# Altium integrated library idl-fixed_new.IntLib: 75 symbols
Pins are listed as number, name and electrical type; pins without a type are passive.

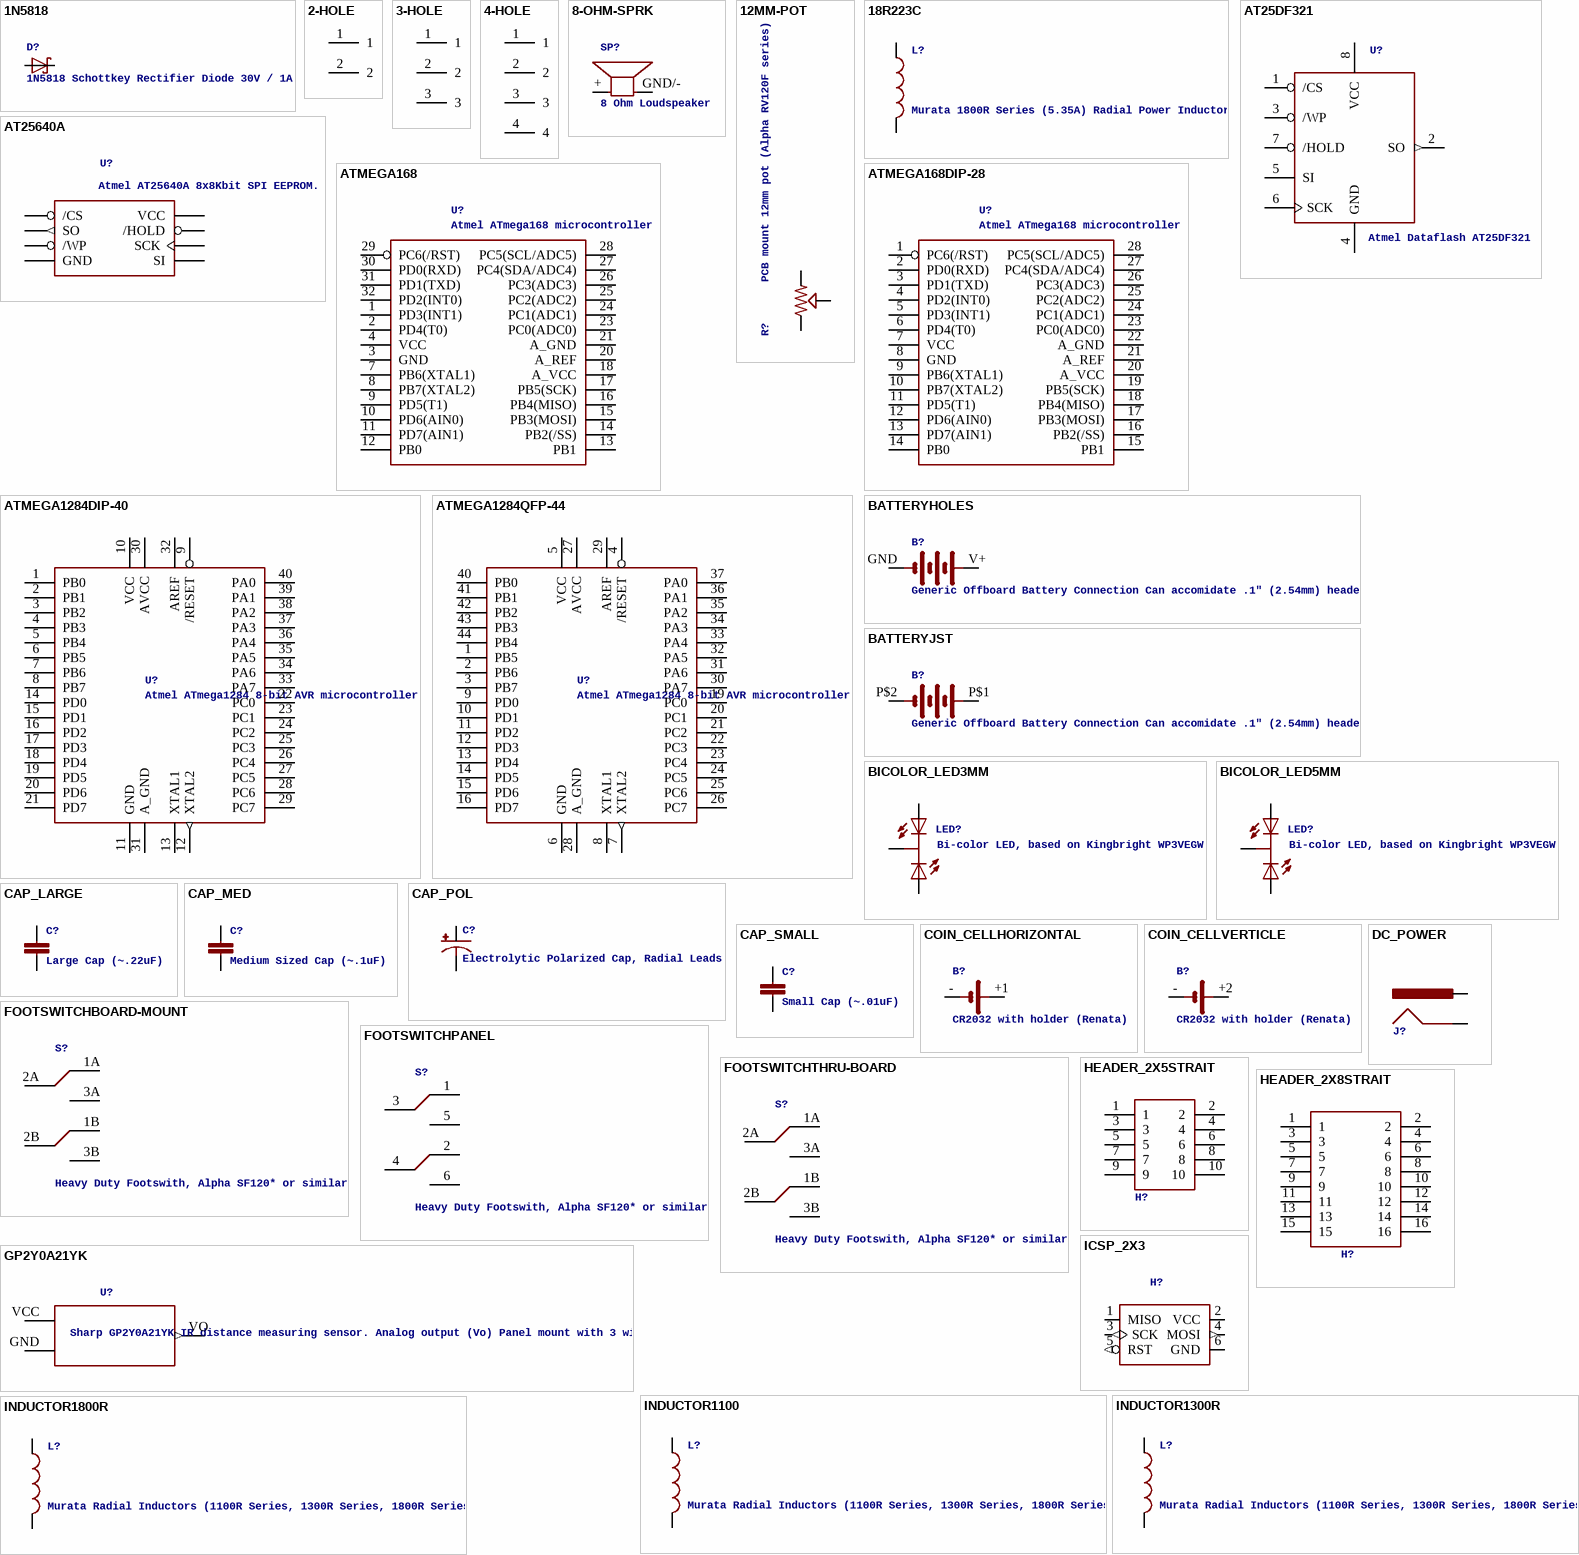
[diagram p0: symbols 1N5818 to INDUCTOR1800R]

## 1N5818
designator D?, comment 1N5818 Schottkey Rectifier Diode 30V / 1A
footprint DO-41
pins: A, C

## 2-HOLE
designator ?
footprint 2-HOLES
pins: 1, 2

## 3-HOLE
designator H?
footprint 3-HOLES
pins: 1, 2, 3

## 4-HOLE
designator ?
footprint 4-HOLES
pins: 1, 2, 3, 4

## 8-OHM-SPRK
designator SP?, comment 8 Ohm Loudspeaker
footprint SPKR
pins: +, GND/- -

## 12MM-POT
designator R?, comment PCB mount 12mm pot (Alpha RV120F series)
footprint 12MM
pins: 1, 2, 3

## 18R223C
designator L?, comment Murata 1800R Series (5.35A) Radial Power Inductor
footprint 1800R_SERIES
pins: P$1 1, P$2 2

## AT25DF321
designator U?, comment Atmel Dataflash AT25DF321
footprint SOIC-8_208
pins: 1 /CS, 2 SO (out), 3 /WP, 4 GND (power), 5 SI, 6 SCK, 7 /HOLD, 8 VCC (power)

## AT25640A
designator U?, comment Atmel AT25640A 8x8Kbit SPI EEPROM.
pins: ?1 /CS, ?2 SO (out), ?3 /WP, ?4 GND (power), ?5 SI, ?6 SCK, ?7 /HOLD, ?8 VCC (power)

## ATMEGA168
designator U?, comment Atmel ATmega168 microcontroller
footprint QFP32-08
pins: 1 PD3(INT1), 2 PD4(T0), 3 GND (power), 4 VCC (power), 7 PB6(XTAL1), 8 PB7(XTAL2), 9 PD5(T1), 10 PD6(AIN0), 11 PD7(AIN1), 12 PB0, 13 PB1, 14 PB2(/SS), 15 PB3(MOSI), 16 PB4(MISO), 17 PB5(SCK), 18 A_VCC (power), 20 A_REF (power), 21 A_GND (power), 23 PC0(ADC0), 24 PC1(ADC1), 25 PC2(ADC2), 26 PC3(ADC3), 27 PC4(SDA/ADC4), 28 PC5(SCL/ADC5), 29 PC6(/RST), 30 PD0(RXD), 31 PD1(TXD), 32 PD2(INT0)

## ATMEGA168DIP-28
designator U?, comment Atmel ATmega168 microcontroller
footprint DIP-28
pins: 1 PC6(/RST), 2 PD0(RXD), 3 PD1(TXD), 4 PD2(INT0), 5 PD3(INT1), 6 PD4(T0), 7 VCC (power), 8 GND (power), 9 PB6(XTAL1), 10 PB7(XTAL2), 11 PD5(T1), 12 PD6(AIN0), 13 PD7(AIN1), 14 PB0, 15 PB1, 16 PB2(/SS), 17 PB3(MOSI), 18 PB4(MISO), 19 PB5(SCK), 20 A_VCC (power), 21 A_REF (power), 22 A_GND (power), 23 PC0(ADC0), 24 PC1(ADC1), 25 PC2(ADC2), 26 PC3(ADC3), 27 PC4(SDA/ADC4), 28 PC5(SCL/ADC5)

## ATMEGA1284DIP-40
designator U?, comment Atmel ATmega1284 8-bit AVR microcontroller
footprint DIP-40
pins: 1 PB0, 2 PB1, 3 PB2, 4 PB3, 5 PB4, 6 PB5, 7 PB6, 8 PB7, 9 /RESET, 10 VCC (power), 11 GND (power), 12 XTAL2 (out), 13 XTAL1, 14 PD0, 15 PD1, 16 PD2, 17 PD3, 18 PD4, 19 PD5, 20 PD6, 21 PD7, 22 PC0, 23 PC1, 24 PC2, 25 PC3, 26 PC4, 27 PC5, 28 PC6, 29 PC7, 30 AVCC (power), 31 A_GND (power), 32 AREF (oe), 33 PA7, 34 PA6, 35 PA5, 36 PA4, 37 PA3, 38 PA2, 39 PA1, 40 PA0

## ATMEGA1284QFP-44
designator U?, comment Atmel ATmega1284 8-bit AVR microcontroller
footprint QFP44-08
pins: 1 PB5, 2 PB6, 3 PB7, 4 /RESET, 5 VCC (power), 6 GND (power), 7 XTAL2 (out), 8 XTAL1, 9 PD0, 10 PD1, 11 PD2, 12 PD3, 13 PD4, 14 PD5, 15 PD6, 16 PD7, 19 PC0, 20 PC1, 21 PC2, 22 PC3, 23 PC4, 24 PC5, 25 PC6, 26 PC7, 27 AVCC (power), 28 A_GND (power), 29 AREF (oe), 30 PA7, 31 PA6, 32 PA5, 33 PA4, 34 PA3, 35 PA2, 36 PA1, 37 PA0, 40 PB0, 41 PB1, 42 PB2, 43 PB3, 44 PB4

## BATTERYHOLES
designator B?, comment Generic Offboard Battery Connection Can accomidate .1" (2.54mm) headers
footprint BATTERY
pins: GND -, V+ +

## BATTERYJST
designator B?, comment Generic Offboard Battery Connection Can accomidate .1" (2.54mm) headers
footprint JST_2_PIN
pins: P$1 +, P$2 -

## BICOLOR_LED3MM
designator LED?, comment Bi-color LED, based on Kingbright WP3VEGW
footprint 3MMLED_3LEADS
pins: 1 A1, 2 CC, 3 A2

## BICOLOR_LED5MM
designator LED?, comment Bi-color LED, based on Kingbright WP3VEGW
footprint 5MMLED_3LEADS
pins: 1 A1, 2 CC, 3 A2

## CAP_LARGE
designator C?, comment Large Cap (~.22uF)
footprint CAP_LARGE
pins: 1, 2

## CAP_MED
designator C?, comment Medium Sized Cap (~.1uF)
footprint CAP_MED
pins: P$1 1, P$2 2

## CAP_POL
designator C?, comment Electrolytic Polarized Cap, Radial Leads
footprint CAP_POL
pins: P$1 +, P$2 -

## CAP_SMALL
designator C?, comment Small Cap (~.01uF)
footprint CAP_SMALL
pins: P$1 1, P$2 2

## COIN_CELLHORIZONTAL
designator B?, comment CR2032 with holder (Renata)
footprint COIN_CELL_H
pins: +1 +, -

## COIN_CELLVERTICLE
designator B?, comment CR2032 with holder (Renata)
footprint COIN_CELL_V
pins: +2 +, -

## DC_POWER
designator J?
footprint 2-HOLES
pins: 1 GND, 2 PWR

## FOOTSWITCHBOARD-MOUNT
designator S?, comment Heavy Duty Footswith, Alpha SF120* or similar
footprint FOOTSWITCH
pins: 1A, 1B, 2A, 2B, 3A, 3B

## FOOTSWITCHPANEL
designator S?, comment Heavy Duty Footswith, Alpha SF120* or similar
footprint 2X3_HEADER
pins: 1 1A, 2 1B, 3 2A, 4 2B, 5 3A, 6 3B

## FOOTSWITCHTHRU-BOARD
designator S?, comment Heavy Duty Footswith, Alpha SF120* or similar
footprint FOOTSWITCH_HOLE
pins: 1A, 1B, 2A, 2B, 3A, 3B

## GP2Y0A21YK
designator U?, comment Sharp GP2Y0A21YK IR distance measuring sensor. Analog output (Vo) Panel mount with 3 wire pig tail connector to PCB
footprint GP2Y0
pins: GND (power), VCC (power), VO (out)

## HEADER_2X5STRAIT
designator H?, comment .1" headers  (value not drawn)
footprint 2X5_HEADER
pins: 1, 2, 3, 4, 5, 6, 7, 8, 9, 10

## HEADER_2X8STRAIT
designator H?, comment .1" header  (value not drawn)
footprint 2X8_HEADER
pins: 1, 2, 3, 4, 5, 6, 7, 8, 9, 10, 11, 12, 13, 14, 15, 16

## ICSP_2X3
designator H?, comment 2x3 Header for Atmel ICSP  (value not drawn)
footprint 2X3_HEADER
pins: 1 MISO, 2 VCC (power), 3 SCK (out), 4 MOSI (out), 5 RST (out), 6 GND (power)

## INDUCTOR1100
designator L?, comment Murata Radial Inductors (1100R Series, 1300R Series, 1800R Series)
footprint 1100R
pins: 1, 2

## INDUCTOR1300R
designator L?, comment Murata Radial Inductors (1100R Series, 1300R Series, 1800R Series)
footprint 1300R
pins: 1, 2

## INDUCTOR1800R
designator L?, comment Murata Radial Inductors (1100R Series, 1300R Series, 1800R Series)
footprint 1800R_SERIES
pins: P$1 1, P$2 2

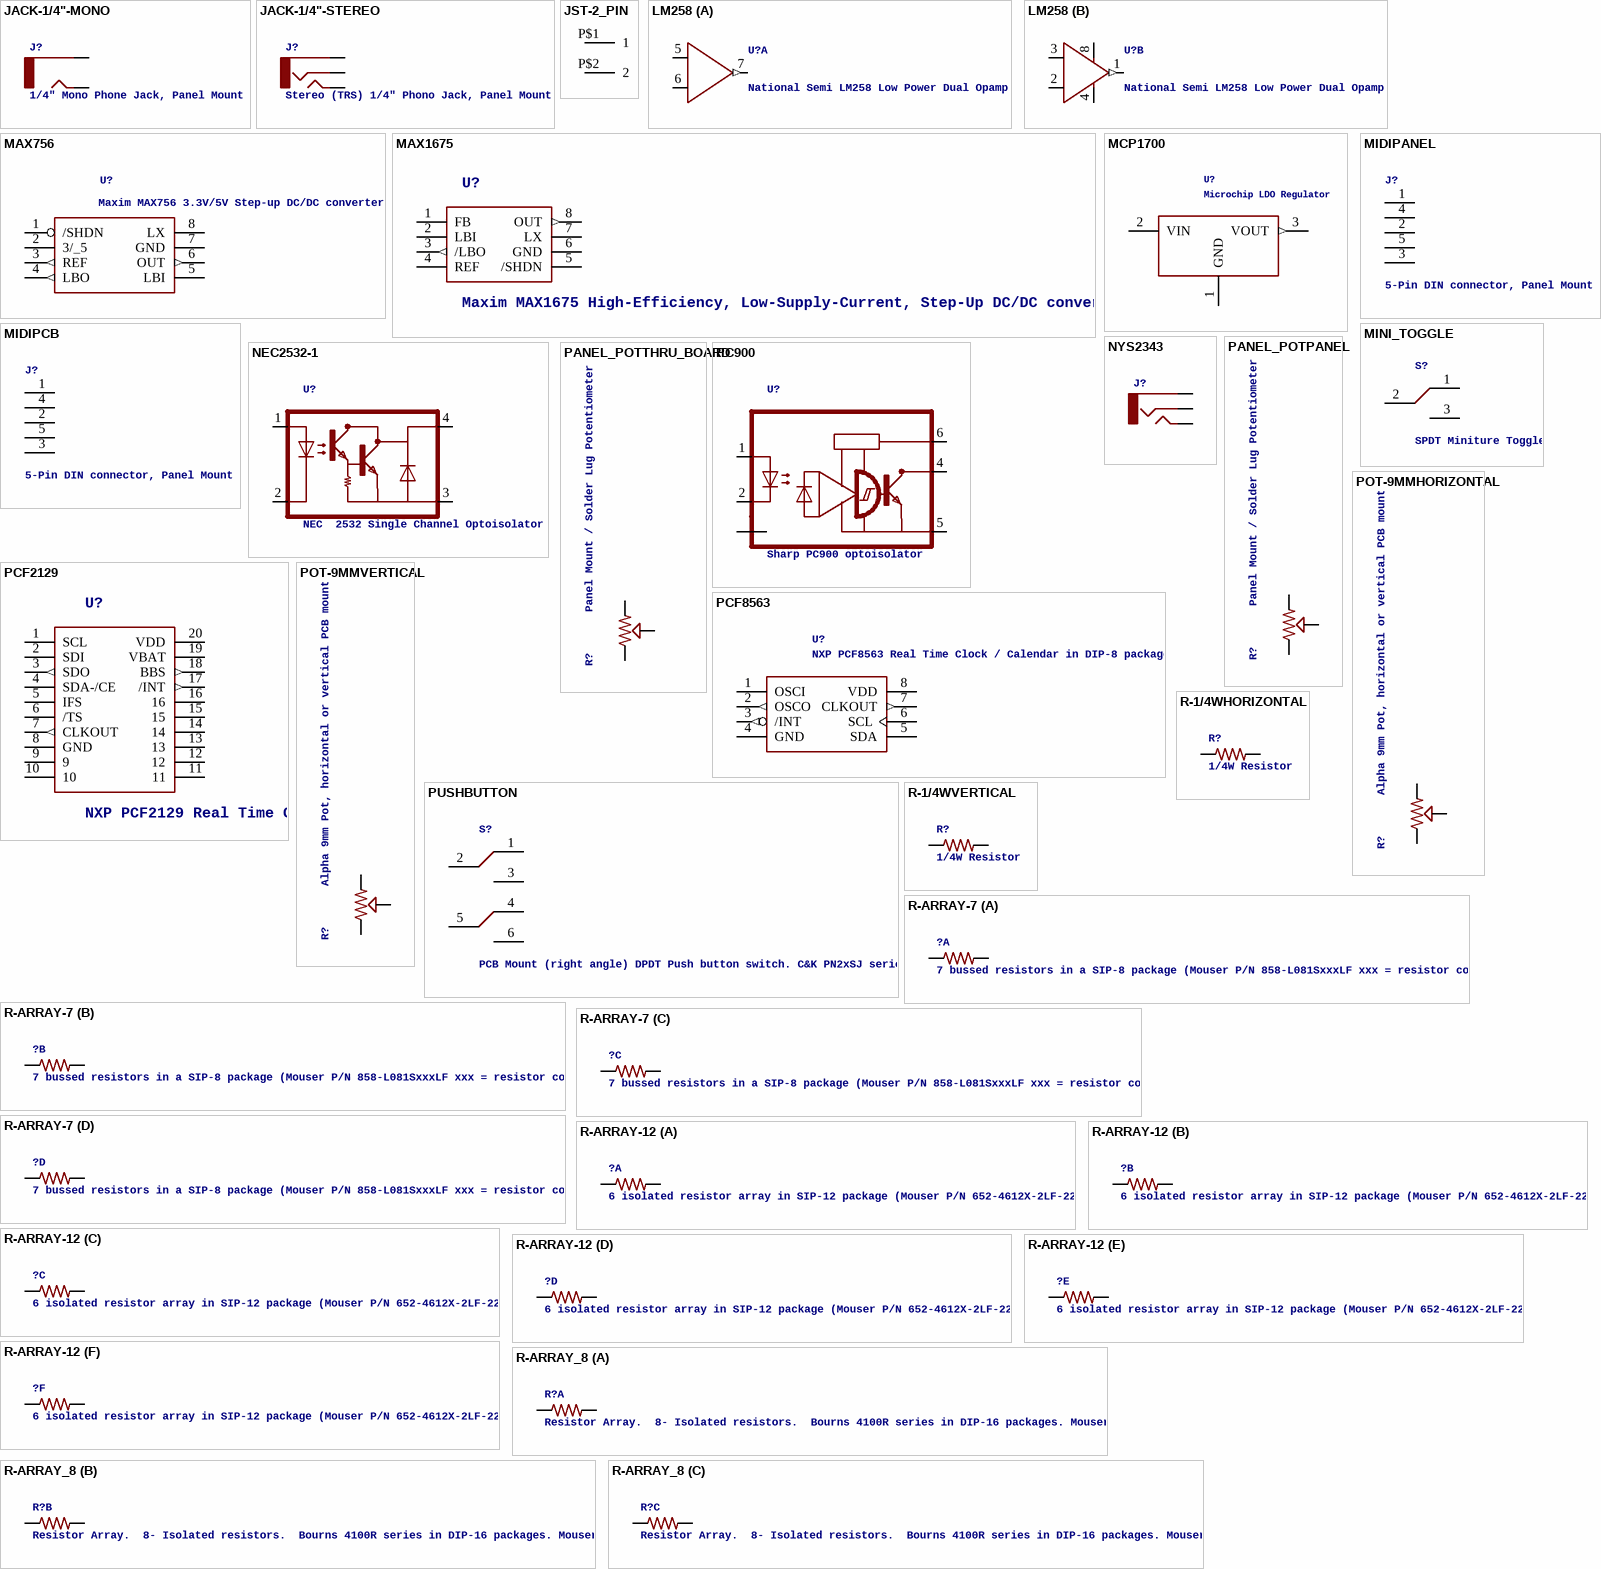
[diagram p1: symbols JACK-1/4"-MONO to R-ARRAY_8]

## JACK-1/4"-MONO
designator J?, comment 1/4" Mono Phone Jack, Panel Mount
footprint MONO-JACK
pins: GND, L L/+

## JACK-1/4"-STEREO
designator J?, comment Stereo (TRS) 1/4" Phono Jack, Panel Mount
footprint STEREO-JACK
pins: GND, L L/+, R R/-

## JST-2_PIN
designator ?, comment JST 2-pin connector  (value not drawn)
footprint JST_2_PIN
pins: P$1 1, P$2 2

## LM258
designator U?, comment National Semi LM258 Low Power Dual Opamp
footprint DIP-8
part A pins: 5 IN+1, 6 IN-1, 7 OUT1 (out)
part B pins: 1 OUT (out), 2 IN-, 3 IN+, 4 -VS (power), 8 +VS (power)

## MAX756
designator U?, comment Maxim MAX756 3.3V/5V Step-up DC/DC converter
footprint DIP-8
pins: 1 /SHDN, 2 3/_5, 3 REF (out), 4 LBO (out), 5 LBI, 6 OUT (out), 7 GND (power), 8 LX (power)

## MAX1675
designator U?, comment Maxim MAX1675 High-Efficiency, Low-Supply-Current, Step-Up DC/DC converter
footprint UMAX-8
pins: 1 FB, 2 LBI, 3 /LBO (out), 4 REF, 5 /SHDN, 6 GND (power), 7 LX, 8 OUT (out)

## MCP1700
designator U?, comment Microchip LDO Regulator
footprint TO-92-STRAIT
pins: 1 GND (power), 2 VIN, 3 VOUT (out)

## MIDIPANEL
designator J?, comment 5-Pin DIN connector, Panel Mount
footprint DIN5
pins: 1, 2, 3, 4, 5

## MIDIPCB
designator J?, comment 5-Pin DIN connector, Panel Mount
footprint DIN-5_PCB
pins: 1, 2, 3, 4, 5

## MINI_TOGGLE
designator S?, comment SPDT Miniture Toggle Switch, right angle PCB mount (Mount Switch, P/N 108-1MS1T2B4M6QE-EVX)
footprint MTN_RT_MINI_TOGGLE
pins: 1, 2, 3

## NEC2532-1
designator U?, comment NEC  2532 Single Channel Optoisolator
footprint DIP-4
pins: 1 A1, 2 C1, 3 EMT (power), 4 COL

## NYS2343
designator J?
footprint NYS2343
pins: G GND, R R/-, T L/+

## PANEL_POTPANEL
designator R?, comment Panel Mount / Solder Lug Potentiometer
footprint SOLDER_LUG_POT
pins: 1, 2, 3

## PANEL_POTTHRU_BOARD
designator R?, comment Panel Mount / Solder Lug Potentiometer
footprint POT_THRU_BOARD
pins: 1, 2, 3

## PC900
designator U?, comment Sharp PC900 optoisolator
footprint DIP-6
pins: 1 A1, 2 C1, 3, 4 VO, 5 GND (power), 6 VCC (power)

## PCF2129
designator U?, comment NXP PCF2129 Real Time Clock with Integrated temp compensated oscillator.  SO20 package.
footprint SO20
pins: 1 SCL, 2 SDI, 3 SDO (out), 4 SDA-/CE, 5 IFS, 6 /TS, 7 CLKOUT (out), 8 GND (power), 9, 10, 11, 12, 13, 14, 15, 16, 17 /INT (out), 18 BBS (out), 19 VBAT (power), 20 VDD (power)

## PCF8563
designator U?, comment NXP PCF8563 Real Time Clock / Calendar in DIP-8 package
footprint DIP-8
pins: 1 OSCI, 2 OSCO (out), 3 /INT (out), 4 GND (power), 5 SDA, 6 SCL, 7 CLKOUT (out), 8 VDD (power)

## POT-9MMHORIZONTAL
designator R?, comment Alpha 9mm Pot, horizontal or vertical PCB mount
footprint 9MM-H
pins: 1, 2, 3

## POT-9MMVERTICAL
designator R?, comment Alpha 9mm Pot, horizontal or vertical PCB mount
footprint 9MM-V
pins: 1, 2, 3

## PUSHBUTTON
designator S?, comment PCB Mount (right angle) DPDT Push button switch. C&K PN2xSJ series
footprint PUSH_BUTTON
pins: 1 1A, 2 2A, 3 3A, 4 1B, 5 2B, 6 3B

## R-1/4WHORIZONTAL
designator R?, comment 1/4W Resistor
footprint 0207-H
pins: 1, 2

## R-1/4WVERTICAL
designator R?, comment 1/4W Resistor
footprint 0207-V
pins: 1, 2

## R-ARRAY-7
designator ?, comment 7 bussed resistors in a SIP-8 package (Mouser P/N 858-L081SxxxLF xxx = resistor code)
footprint SIP-8
part A pins: ?1 2, ?2 1
part B pins: ? 2, ? 1
part C pins: ? 2, ? 1
part D pins: ? 2, ? 1

## R-ARRAY-12
designator ?, comment 6 isolated resistor array in SIP-12 package (Mouser P/N 652-4612X-2LF-220)
footprint SIP-12
part A pins: P$1 1, P$2 2
part B pins: P$3 1, P$4 2
part C pins: P$5 1, P$6 2
part D pins: P$7 1, P$8 2
part E pins: P$9 1, P$10 2
part F pins: P$11 1, P$12 2

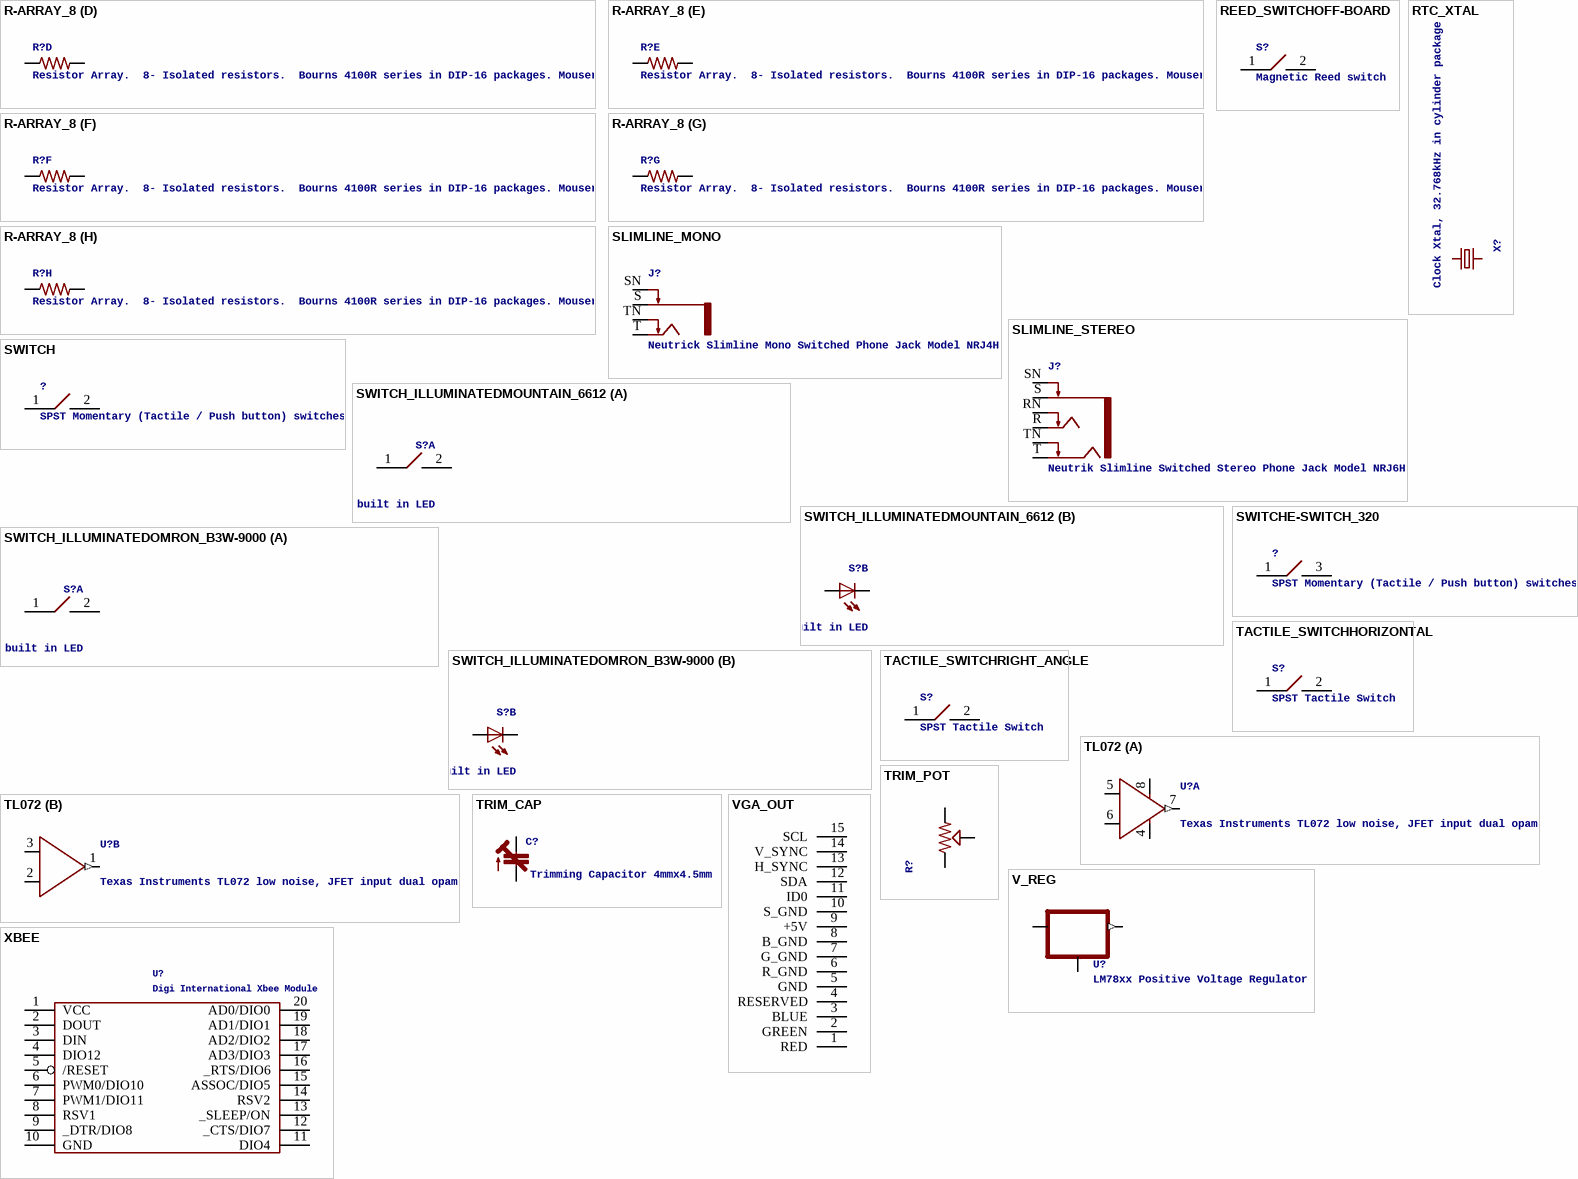
[diagram p2: symbols R-ARRAY_8 to XBEE]

## R-ARRAY_8
designator R?, comment Resistor Array.  8- Isolated resistors.  Bourns 4100R series in DIP-16 packages. Mouser P/N 652-4116R-1-XXXLF
footprint DIP-16
part A pins: 1, 16 2
part B pins: 2 1, 15 2
part C pins: 3 1, 14 2
part D pins: 4 1, 13 2
part E pins: 5 1, 12 2
part F pins: 6 1, 11 2
part G pins: 7 1, 10 2
part H pins: 8 1, 9 2

## REED_SWITCHOFF-BOARD
designator S?, comment Magnetic Reed switch
footprint 2-HOLES
pins: 1 P$1, 2 P$2

## RTC_XTAL
designator X?, comment Clock Xtal, 32.768kHz in cylinder package
FREQ: 32.768kHz
footprint XTAL_CYLINDER
pins: 1, 2

## SLIMLINE_MONO
designator J?, comment Neutrick Slimline Mono Switched Phone Jack Model NRJ4HF
footprint SLIMLINE_MONO
pins: S, SN, T, TN

## SLIMLINE_STEREO
designator J?, comment Neutrik Slimline Switched Stereo Phone Jack Model NRJ6HF
footprint SLIMLINE_STEREO
pins: R, RN, S, SN, T, TN

## SWITCH
designator ?, comment SPST Momentary (Tactile / Push button) switches
footprint NKK_JB15
pins: 1 P$1, 2 P$2

## SWITCH_ILLUMINATEDMOUNTAIN_6612
designator S?, comment Momentary SPST (Tactile / Pushbutton) with built in LED
footprint MNTN_ILLUM_PB
part A pins: 1 P$1, 2 P$2
part B pins: LED_+ A2, LED_- CATHODE

## SWITCH_ILLUMINATEDOMRON_B3W-9000
designator S?, comment Momentary SPST (Tactile / Pushbutton) with built in LED
footprint OMRON_B3W-9000
part A pins: 1 P$1, 2 P$2
part B pins: LED_ANODE A2, LED_CATHODE CATHODE

## SWITCHE-SWITCH_320
designator ?, comment SPST Momentary (Tactile / Push button) switches
footprint E_SWITCH_320
pins: 1 P$1, 3 P$2

## TACTILE_SWITCHHORIZONTAL
designator S?, comment SPST Tactile Switch
footprint TACTILE_STRAIT
pins: 1 P$1, 2 P$2

## TACTILE_SWITCHRIGHT_ANGLE
designator S?, comment SPST Tactile Switch
footprint TACTILE_RT_ANGLE
pins: 1 P$1, 2 P$2

## TL072
designator U?, comment Texas Instruments TL072 low noise, JFET input dual opamp
footprint DIP-8
part A pins: 4 -VS (power), 5 IN+, 6 IN-, 7 OUT (out), 8 +VS (power)
part B pins: 1 OUT1 (out), 2 IN-1, 3 IN+1

## TRIM_CAP
designator C?, comment Trimming Capacitor 4mmx4.5mm
footprint TRIM_CAP
pins: P$1 A, P$2 E

## TRIM_POT
designator R?
footprint TRIM_POT
pins: 1, 2, 3

## V_REG
designator U?, comment LM78xx Positive Voltage Regulator
footprint TO-220_V
pins: 1 IN, 2 GND, 3 OUT (out)

## VGA_OUT
designator J?, comment VGA Output  (value not drawn)
footprint VGA_DE15
pins: 1 RED, 2 GREEN, 3 BLUE, 4 RESERVED, 5 GND, 6 R_GND, 7 G_GND, 8 B_GND, 9 +5V, 10 S_GND, 11 ID0, 12 SDA, 13 H_SYNC, 14 V_SYNC, 15 SCL

## XBEE
designator U?, comment Digi International Xbee Module
footprint XBEE
pins: 1 VCC (power), 2 DOUT, 3 DIN, 4 DIO12, 5 /RESET, 6 PWM0/DIO10, 7 PWM1/DIO11, 8 RSV1, 9 _DTR/DIO8, 10 GND (power), 11 DIO4, 12 _CTS/DIO7, 13 _SLEEP/ON, 14 RSV2, 15 ASSOC/DIO5, 16 _RTS/DIO6, 17 AD3/DIO3, 18 AD2/DIO2, 19 AD1/DIO1, 20 AD0/DIO0